# Altium footprint library SFE-Custom-Footprints.PcbLib: 154 footprints (part 9 of 10)
Each footprint in its own frame and in the unit in brackets; x right, y up, seen from the top. Pads: shape width x height; smd on the part's side, far side on the other; paste and mask are expansions set on the pad; w line width, h text height; cw(c..) or ccw(c..) is an arc to the next point about the centre after c.
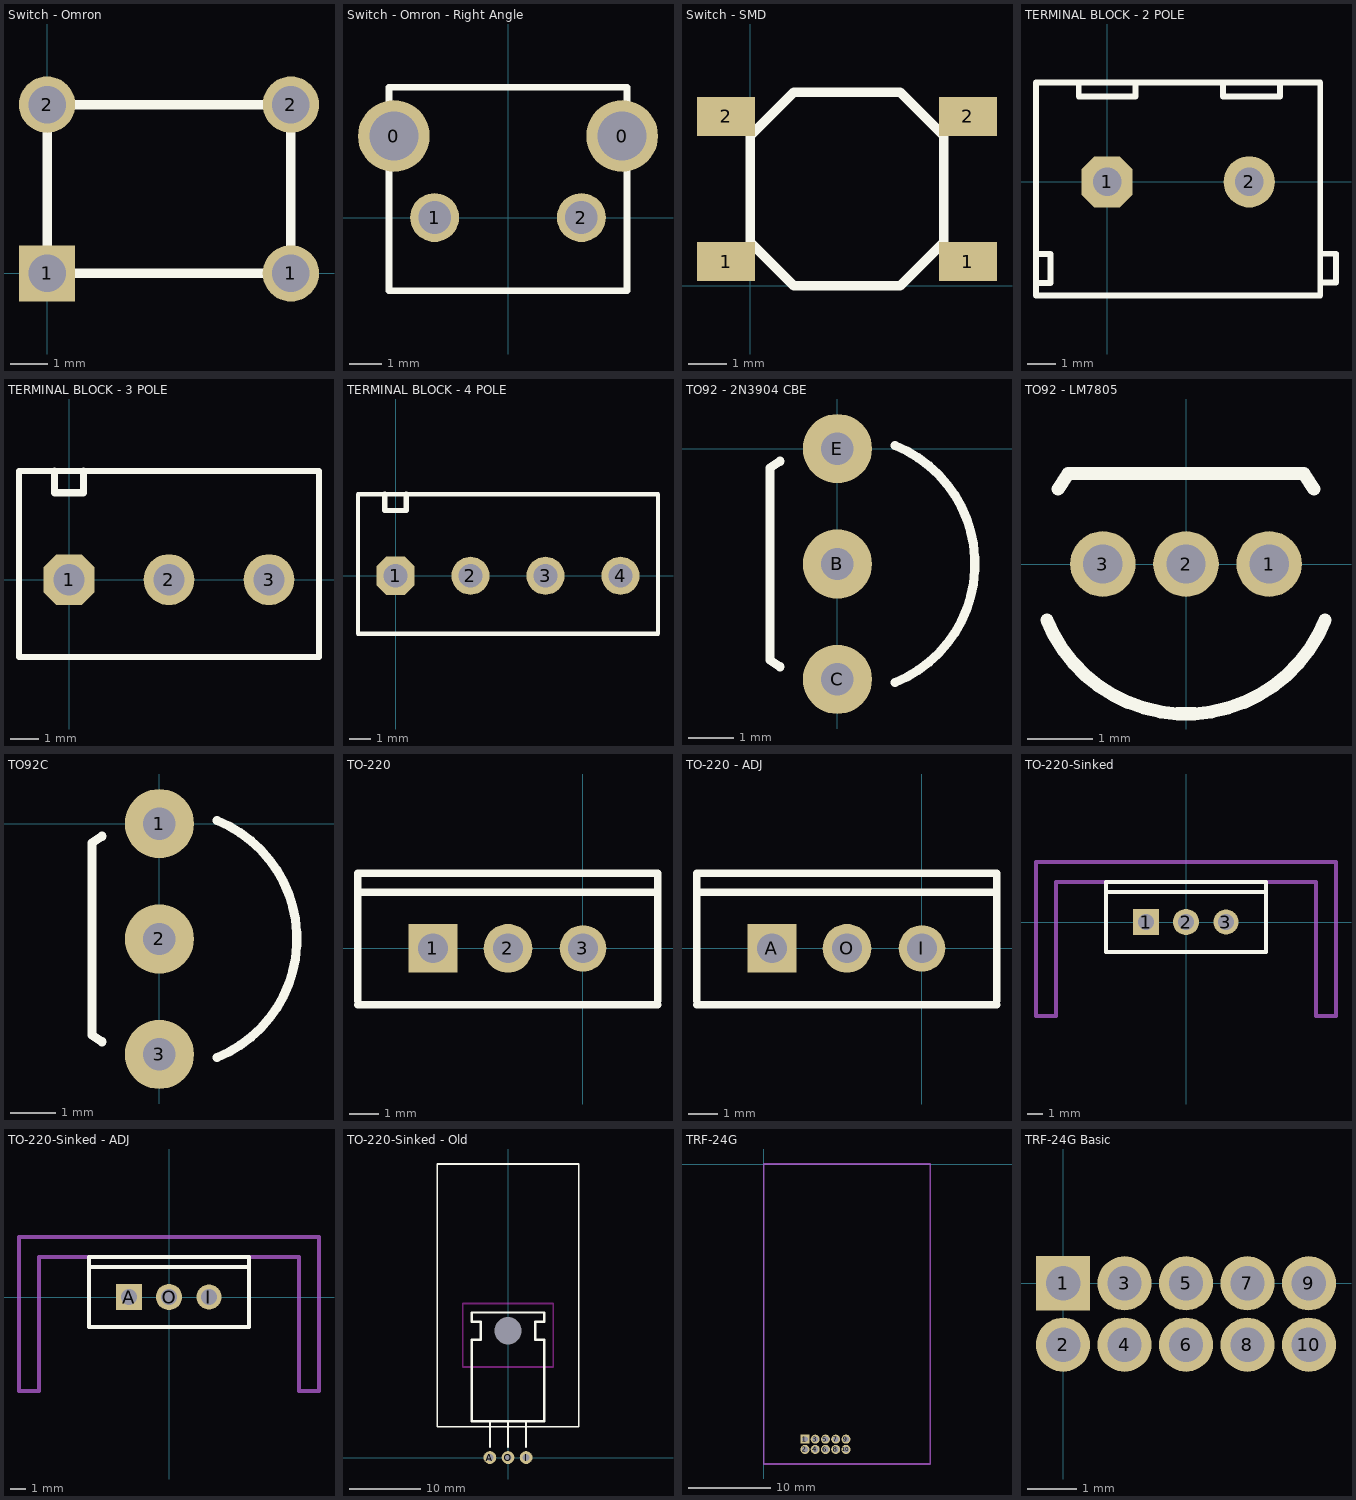
[diagram p8: the footprints below, top view; thin cyan lines are the x and y axes]

## Switch - Omron [mm]
pads (4):
  rect 1.5x1.5 hole 1: 1(0,0)
  round 1.5 hole 1: 1(6.5,0) 2(0,4.5) 2(6.5,4.5)
Top Overlay:
  lines w0.254: 0,0 6.5,0 6.5,4.5 0,4.5 0,0

## Switch - Omron - Right Angle [mm]
pads (4):
  round 2.2 hole 1.5: 0(-3.5,2.5) 0(3.5,2.5)
  round 1.5 hole 1: 1(-2.25,0) 2(2.25,0)
Top Overlay:
  lines w0.203: -3.65,-2.25 3.65,-2.25 3.65,4 -3.65,4 -3.65,-2.25

## Switch - SMD [mil]
pads (4):
  rect 60x40 smd: 1(-25,25) 1(225,25) 2(-25,175) 2(225,175)
Top Overlay:
  lines w10: 0,45 0,155 45,200 155,200 200,155 200,45 155,0 45,0 0,45

## TERMINAL BLOCK - 2 POLE [mm]
pads (2):
  oct 1.8x1.8 hole 1: 1(0,0)
  round 1.8 hole 1: 2(5,0)
Top Overlay:
  lines w0.203: -2.5,-3.556 -1.992,-3.556 -1.992,-2.54 -2.5,-2.54 ; -1,3.5 -1,3 1,3 1,3.5 ; 4.08,3.5 4.08,3 6.08,3 6.08,3.5 ; 7.544,-3.541 8.052,-3.541 8.052,-2.525 7.544,-2.525 ; -2.5,-4 7.5,-4 7.5,3.5 -2.5,3.5 -2.5,-4

## TERMINAL BLOCK - 3 POLE [mil]
pads (3):
  oct 70x70 hole 43.31: 1(0,0)
  round 70 hole 43.31: 2(137.79,0) 3(275.59,0)
Top Overlay:
  lines w8: -68.9,-106.3 -68.9,149.61 344.49,149.61 344.49,-106.3 -68.9,-106.3
  lines w10: -20,149.61 -20,120 20,120 20,149.61

## TERMINAL BLOCK - 4 POLE [mil]
pads (4):
  oct 70x70 hole 43.31: 1(0,0)
  round 70 hole 43.31: 2(137.79,0) 3(275.59,0) 4(413.39,0)
Top Overlay:
  lines w8: -68.9,-106.3 -68.9,149.61 482.28,149.61 482.28,-106.3 -68.9,-106.3
  lines w10: -20,149.61 -20,120 20,120 20,149.61

## TO92 - 2N3904 CBE [mil]
pads (3):
  round 60 hole 28: B(0,-100) C(0,-200) E(0,0)
Top Overlay:
  lines w7.87: -49.71,-189.08 -58.33,-183.33 -58.33,-16.67 -49.71,-10.92 ; 49.85,-202.76 ccw(c8.33,-100) 49.85,2.76

## TO92 - LM7805 [mm]
pads (3):
  round 1 hole 0.6: 1(1.27,0) 2(0,0) 3(-1.27,0)
Top Overlay:
  lines w0.2: -2.123,-0.858 ccw(c0,0) 2.123,-0.858 ; -1.956,1.143 -1.81,1.362 ; -1.8,1.38 1.8,1.38 ; 1.81,1.362 1.956,1.143

## TO92C [mil]
pads (3):
  round 60 hole 28: 1(0,0) 2(0,-100) 3(0,-200)
Top Overlay:
  lines w7.87: -49.71,-189.08 -58.33,-183.33 -58.33,-16.67 -49.71,-10.92 ; 49.85,-202.76 ccw(c8.33,-100) 49.85,2.76

## TO-220 [mil]
pads (3):
  rect 65x65 hole 39.4: 1(-200,0)
  round 65 hole 39.4: 2(-100,0)
  round 62 hole 39.4: 3(0,0)
Top Overlay:
  lines w10: -300,-75 100,-75 ; -300,-70 -300,100 100,100 100,-70 ; -300,75 100,75

## TO-220 - ADJ [mil]
pads (3):
  rect 65x65 hole 39.4: A(-200,0)
  round 62 hole 39.4: I(0,0)
  round 65 hole 39.4: O(-100,0)
Top Overlay:
  lines w10: -300,-75 100,-75 ; -300,-70 -300,100 100,100 100,-70 ; -300,75 100,75

## TO-220-Sinked [mil]
pads (3):
  rect 65x65 hole 39.4: 1(-100,0)
  round 65 hole 39.4: 2(0,0)
  round 62 hole 39.4: 3(100,0)
Top Overlay:
  lines w10: -200,-75 200,-75 ; -200,-70 -200,100 200,100 200,-70 ; -200,75 200,75
Mechanical 1:
  lines w10: -375,-235 -375,150 375,150 375,-235 325,-235 325,100 -325,100 -325,-235 -375,-235

## TO-220-Sinked - ADJ [mil]
pads (3):
  rect 65x65 hole 39.4: A(-100,0)
  round 62 hole 39.4: I(100,0)
  round 65 hole 39.4: O(0,0)
Top Overlay:
  lines w10: -200,-75 200,-75 ; -200,-70 -200,100 200,100 200,-70 ; -200,75 200,75
Mechanical 1:
  lines w10: -375,-235 -325,-235 -325,100 325,100 325,-235 375,-235 375,150 -375,150 -375,-235

## TO-220-Sinked - Old [mm]
pads (4):
  round 0 hole 3.81: 0(0,17.78)
  round 1.8 hole 1: A(-2.54,0) I(2.54,0) O(0,0)
Top Overlay:
  lines w0.254: -9.906,4.318 9.906,4.318 9.906,41.148 -9.906,41.148 -9.906,4.318
  lines w0.305: -2.54,1.524 -2.54,5.08 ; 0,1.524 0,5.08 ; 2.54,1.524 2.54,5.08 ; -5.08,5.08 5.08,5.08 5.08,16.51 3.81,16.51 3.81,19.05 5.08,19.05 5.08,20.32 -5.08,20.32 -5.08,19.05 -3.81,19.05 -3.81,16.51 -5.08,16.51 -5.08,5.08
Keep-Out Layer:
  lines w0.254: -6.35,21.557 -6.35,12.7 6.35,12.7 6.35,21.555 ; -6.35,21.59 6.35,21.59

## TRF-24G [mm]
pads (10):
  rect 1.1x1.1 hole 0.7: 1(5.033,-33.548)
  round 1.1 hole 0.7: 2(5.033,-34.798) 3(6.283,-33.548) 4(6.283,-34.798) 5(7.533,-33.548) 6(7.533,-34.798) 7(8.783,-33.548) 8(8.783,-34.798) 9(10.033,-33.548) 10(10.033,-34.798)
Mechanical 1:
  lines w0.203: 0,-36.576 0,0 20.32,0 20.32,-36.576 0,-36.576

## TRF-24G Basic [mm]
pads (10):
  rect 1.1x1.1 hole 0.7: 1(0,0)
  round 1.1 hole 0.7: 2(0,-1.25) 3(1.25,0) 4(1.25,-1.25) 5(2.5,0) 6(2.5,-1.25) 7(3.75,0) 8(3.75,-1.25) 9(5,0) 10(5,-1.25)